# Altium schematic symbol library 33 RESISTORS_THD_AX14_8mm_S.SchLib: 9 symbols
Pins are listed as number, name and electrical type; pins without a type are passive.

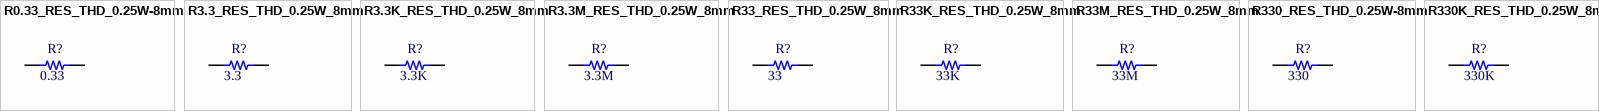
[diagram p0: symbols R0.33_RES_THD_0.25W-8mm to R330K_RES_THD_0.25W_8mm]

## R0.33_RES_THD_0.25W-8mm
designator R?  value 0.33  (hidden comment: *)
RESISTOR_0.33Ohm_THD_0.25W-8mm; Pacakge: THT; Rating: 0.25W; Type: 5%
footprint R0.33_RES_THD_AX14_0.25W (RESISTOR 0.33 Ohm  THD AX14 0.25W Length  8mm)
pins: 1, 2

## R3.3_RES_THD_0.25W_8mm
designator R?  value 3.3  (hidden comment: *)
RESISTOR_3.3Ohm_THD_0.25W-8mm; Pacakge: THT; Rating: 0.25W; Type: 5%
footprint R3.3_RES_THD_AX14_0.25W (RESISTOR 3.3 Ohm  THD AX14 0.25W Length  8mm)
pins: 1, 2

## R3.3K_RES_THD_0.25W_8mm
designator R?  value 3.3K  (hidden comment: *)
RESISTOR_3.3KOhm_THD_0.25W-8mm; Pacakge: THT; Rating: 0.25W; Type: 5%
footprint R3.3K_RES_THD_AX14_0.25W (RESISTOR 3.3K Ohm  THD AX14 0.25W Length  8mm)
pins: 1, 2

## R3.3M_RES_THD_0.25W_8mm
designator R?  value 3.3M  (hidden comment: *)
RESISTOR_3.3MOhm_THD_0.25W-8mm; Pacakge: THT; Rating: 0.25W; Type: 5%
footprint R3.3M_RES_THD_AX14_0.25W (RESISTOR 3.3M Ohm  THD AX14 0.25W Length  8mm)
pins: 1, 2

## R33_RES_THD_0.25W_8mm
designator R?  value 33  (hidden comment: *)
RESISTOR_33Ohm_THD_0.25W-8mm; Pacakge: THT; Rating: 0.25W; Type: 5%; Parameter 1: *
footprint R33_RES_THD_AX14_0.25W (RESISTOR 33 Ohm  THD AX14 0.25W Length  8mm)
pins: 1, 2

## R33K_RES_THD_0.25W_8mm
designator R?  value 33K  (hidden comment: *)
RESISTOR_33KOhm_THD_0.25W-8mm; Pacakge: THT; Rating: 0.25W; Type: 5%
footprint R33K_RES_THD_AX14_0.25W (RESISTOR 33K Ohm  THD AX14 0.25W Length  8mm)
pins: 1, 2

## R33M_RES_THD_0.25W_8mm
designator R?  value 33M  (hidden comment: *)
RESISTOR_33MOhm_THD_0.25W-8mm; Pacakge: THT; Rating: 0.25W; Type: 5%
footprint R33M_RES_THD_AX14_0.25W (RESISTOR 33M Ohm  THD AX14 0.25W Length  8mm)
pins: 1, 2

## R330_RES_THD_0.25W-8mm
designator R?  value 330  (hidden comment: *)
RESISTOR_330Ohm_THD_0.25W-8mm; Pacakge: THT; Rating: 0.25W; Type: 5%; Parameter 1: *
footprint R330_RES_THD_AX14_0.25W (RESISTOR 330 Ohm  THD AX14 0.25W Length  8mm)
pins: 1, 2

## R330K_RES_THD_0.25W_8mm
designator R?  value 330K  (hidden comment: *)
RESISTOR_330KOhm_THD_0.25W-8mm; Pacakge: THT; Rating: 0.25W; Type: 5%
footprint R330K_RES_THD_AX14_0.25W (RESISTOR 330K Ohm  THD AX14 0.25W Length  8mm)
pins: 1, 2